# Altium integrated library TI_Logic_Gate.IntLib: 2017 symbols (part 33 of 56)
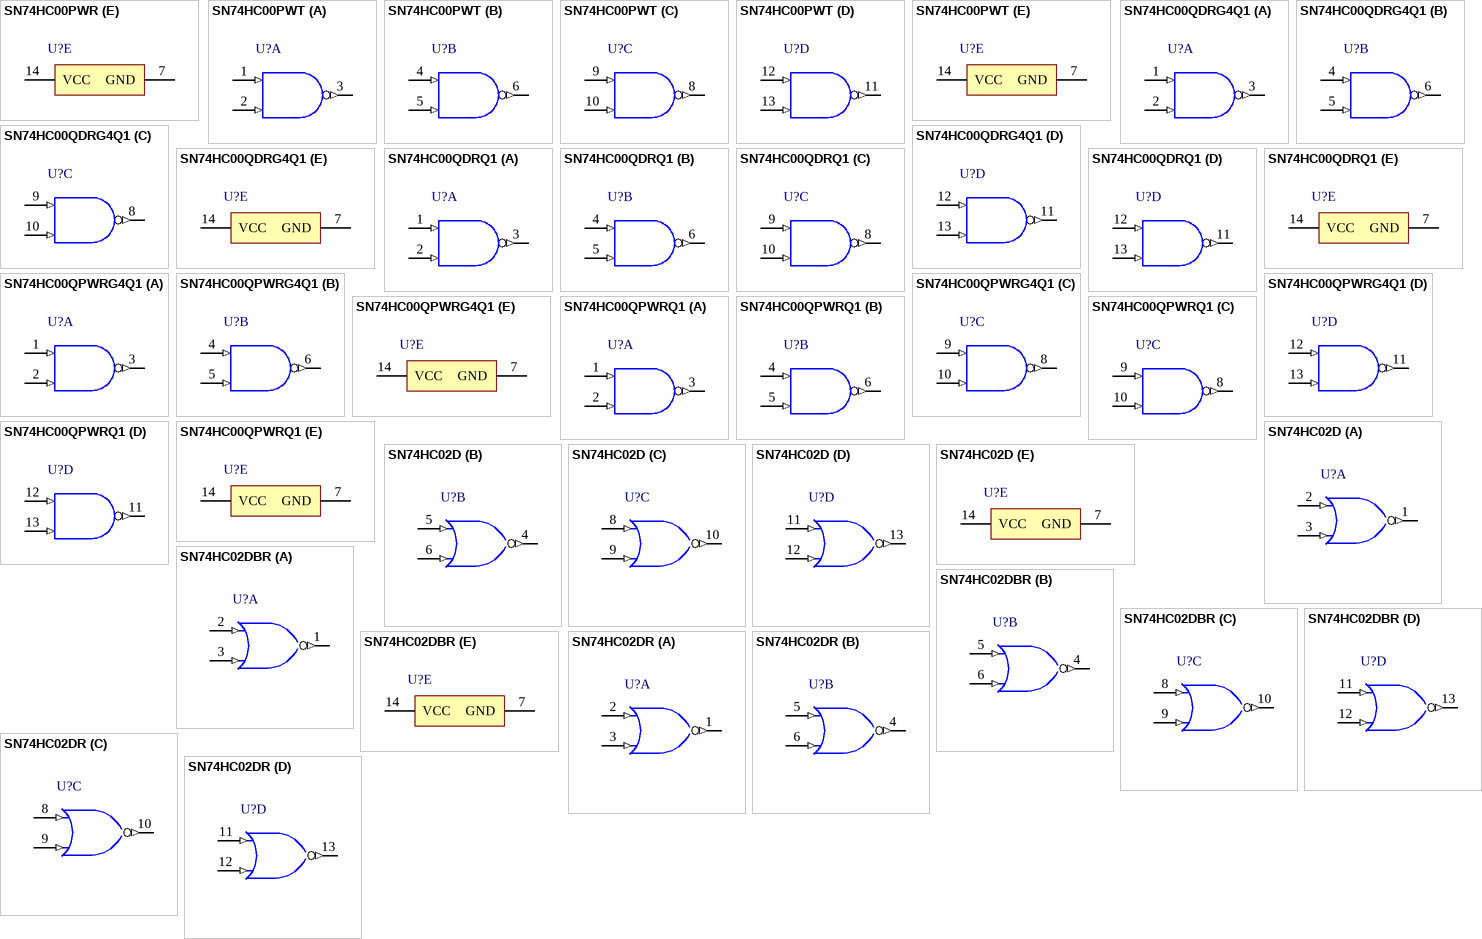
[diagram p257: symbols SN74HC00PWR to SN74HC02DR]

## SN74HC02D
designator U?
Quadruple 2-Input Positive-NOR Gates, D0014A, TUBE; Generic Part Number: SN74HC02; Manufacturer: Texas Instruments; PartNumber: SN74HC02D; VCC(Min)(V): 2; VCC(Max)(V): 6; Output Type: CMOS; Bits(#): 4; Rating: Catalog; tpd @ Nom Voltage(Max)(ns): 23; ICC @ Nom Voltage(Max)(mA): 0.02; F @ Nom Voltage(Max)(Mhz): 70; Voltage(Nom)(V): 5; Output Drive (IOL/IOH)(Max)(mA): 4/-4; DatasheetVersion: SCLS076E; PackageReference: D0014A; Input Type: CMOS; Operating Temperature Range(C): -40 to 85; Code_JEDEC: MS-012; ComponentLink1Description: Manufacturer URL; ComponentLink1URL: http://www.ti.com/; ComponentLink2Description: Datasheet; ComponentLink2URL: http://www.ti.com/lit/ds/symlink/sn74hc02.pdf; ComponentLink3Description: Package Specification; ComponentLink3URL: http://www.ti.com/lit/ml/mpds177g/mpds177g.pdf
footprint D0014A_N (SOIC, 14-Leads, Body 8.75x4mm, Pitch 1.27mm, IPC Medium Density)
footprint D0014A_M (SOIC, 14-Leads, Body 8.75x4mm, Pitch 1.27mm, IPC Low Density)
footprint D0014A_L (SOIC, 14-Leads, Body 8.75x4mm, Pitch 1.27mm, IPC High Density)
part A pins: 1 1Y (out) "1Y output", 2 1A (in) "1A input", 3 1B (in) "1B input"
part B pins: 4 2Y (out) "2Y output", 5 2A (in) "2A input", 6 2B (in) "2B input"
part C pins: 8 3A (in) "3A input", 9 3B (in) "3B input", 10 3Y (out) "3Y output"
part D pins: 11 4A (in) "4A input", 12 4B (in) "4B input", 13 4Y (out) "4Y output"
part E pins: 7 GND (power), 14 VCC (power)

## SN74HC02DBR
designator U?
Quadruple 2-Input Positive-NOR Gates, DB0014A, LARGE T&R; Generic Part Number: SN74HC02; Manufacturer: Texas Instruments; PartNumber: SN74HC02DBR; VCC(Min)(V): 2; VCC(Max)(V): 6; Output Type: CMOS; Bits(#): 4; Rating: Catalog; tpd @ Nom Voltage(Max)(ns): 23; ICC @ Nom Voltage(Max)(mA): 0.02; F @ Nom Voltage(Max)(Mhz): 70; Voltage(Nom)(V): 5; Output Drive (IOL/IOH)(Max)(mA): 4/-4; DatasheetVersion: SCLS076E; PackageReference: DB0014A; Input Type: CMOS; Operating Temperature Range(C): -40 to 85; Code_JEDEC: MO-150; ComponentLink1Description: Manufacturer URL; ComponentLink1URL: http://www.ti.com/; ComponentLink2Description: Datasheet; ComponentLink2URL: http://www.ti.com/lit/ds/symlink/sn74hc02.pdf; ComponentLink3Description: Package Specification; ComponentLink3URL: http://www.ti.com/lit/ml/msso002e/msso002e.pdf
footprint DB0014A_N (SOP, 14-Leads, Body 5.6x6.5mm, Pitch 0.65mm, IPC Medium Density)
footprint DB0014A_M (SOP, 14-Leads, Body 5.6x6.5mm, Pitch 0.65mm, IPC Low Density)
footprint DB0014A_L (SOP, 14-Leads, Body 5.6x6.5mm, Pitch 0.65mm, IPC High Density)
part A pins: 1 1Y (out) "1Y output", 2 1A (in) "1A input", 3 1B (in) "1B input"
part B pins: 4 2Y (out) "2Y output", 5 2A (in) "2A input", 6 2B (in) "2B input"
part C pins: 8 3A (in) "3A input", 9 3B (in) "3B input", 10 3Y (out) "3Y output"
part D pins: 11 4A (in) "4A input", 12 4B (in) "4B input", 13 4Y (out) "4Y output"
part E pins: 7 GND (power), 14 VCC (power)

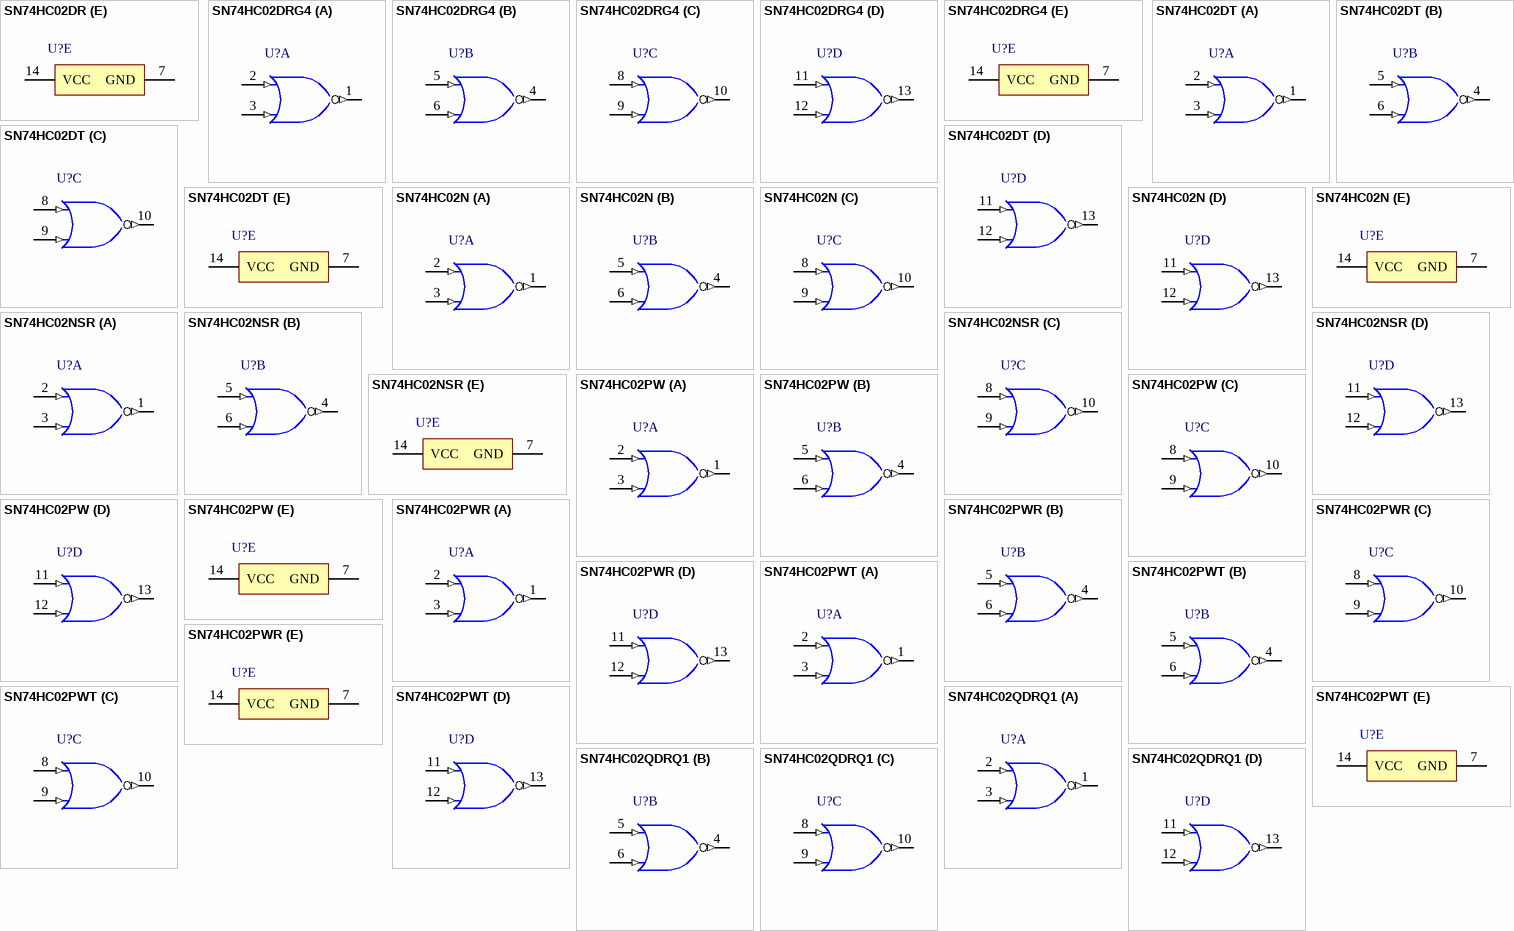
[diagram p130: symbols SN74HC02DR to SN74HC02QDRQ1]

## SN74HC02DR
designator U?
Quadruple 2-Input Positive-NOR Gates, D0014A, LARGE T&R; Generic Part Number: SN74HC02; Manufacturer: Texas Instruments; PartNumber: SN74HC02DR; VCC(Min)(V): 2; VCC(Max)(V): 6; Output Type: CMOS; Bits(#): 4; Rating: Catalog; tpd @ Nom Voltage(Max)(ns): 23; ICC @ Nom Voltage(Max)(mA): 0.02; F @ Nom Voltage(Max)(Mhz): 70; Voltage(Nom)(V): 5; Output Drive (IOL/IOH)(Max)(mA): 4/-4; DatasheetVersion: SCLS076E; PackageReference: D0014A; Input Type: CMOS; Operating Temperature Range(C): -40 to 85; Code_JEDEC: MS-012; ComponentLink1Description: Manufacturer URL; ComponentLink1URL: http://www.ti.com/; ComponentLink2Description: Datasheet; ComponentLink2URL: http://www.ti.com/lit/ds/symlink/sn74hc02.pdf; ComponentLink3Description: Package Specification; ComponentLink3URL: http://www.ti.com/lit/ml/mpds177g/mpds177g.pdf
footprint D0014A_N (SOIC, 14-Leads, Body 8.75x4mm, Pitch 1.27mm, IPC Medium Density)
footprint D0014A_M (SOIC, 14-Leads, Body 8.75x4mm, Pitch 1.27mm, IPC Low Density)
footprint D0014A_L (SOIC, 14-Leads, Body 8.75x4mm, Pitch 1.27mm, IPC High Density)
part A pins: 1 1Y (out) "1Y output", 2 1A (in) "1A input", 3 1B (in) "1B input"
part B pins: 4 2Y (out) "2Y output", 5 2A (in) "2A input", 6 2B (in) "2B input"
part C pins: 8 3A (in) "3A input", 9 3B (in) "3B input", 10 3Y (out) "3Y output"
part D pins: 11 4A (in) "4A input", 12 4B (in) "4B input", 13 4Y (out) "4Y output"
part E pins: 7 GND (power), 14 VCC (power)

## SN74HC02DRG4
designator U?
Quadruple 2-Input Positive-NOR Gates, D0014A, LARGE T&R; Generic Part Number: SN74HC02; Manufacturer: Texas Instruments; PartNumber: SN74HC02DRG4; VCC(Min)(V): 2; VCC(Max)(V): 6; Output Type: CMOS; Bits(#): 4; Rating: Catalog; tpd @ Nom Voltage(Max)(ns): 23; ICC @ Nom Voltage(Max)(mA): 0.02; F @ Nom Voltage(Max)(Mhz): 70; Voltage(Nom)(V): 5; Output Drive (IOL/IOH)(Max)(mA): 4/-4; DatasheetVersion: SCLS076E; PackageReference: D0014A; Input Type: CMOS; Operating Temperature Range(C): -40 to 85; Code_JEDEC: MS-012; ComponentLink1Description: Manufacturer URL; ComponentLink1URL: http://www.ti.com/; ComponentLink2Description: Datasheet; ComponentLink2URL: http://www.ti.com/lit/ds/symlink/sn74hc02.pdf; ComponentLink3Description: Package Specification; ComponentLink3URL: http://www.ti.com/lit/ml/mpds177g/mpds177g.pdf
footprint D0014A_N (SOIC, 14-Leads, Body 8.75x4mm, Pitch 1.27mm, IPC Medium Density)
footprint D0014A_M (SOIC, 14-Leads, Body 8.75x4mm, Pitch 1.27mm, IPC Low Density)
footprint D0014A_L (SOIC, 14-Leads, Body 8.75x4mm, Pitch 1.27mm, IPC High Density)
part A pins: 1 1Y (out) "1Y output", 2 1A (in) "1A input", 3 1B (in) "1B input"
part B pins: 4 2Y (out) "2Y output", 5 2A (in) "2A input", 6 2B (in) "2B input"
part C pins: 8 3A (in) "3A input", 9 3B (in) "3B input", 10 3Y (out) "3Y output"
part D pins: 11 4A (in) "4A input", 12 4B (in) "4B input", 13 4Y (out) "4Y output"
part E pins: 7 GND (power), 14 VCC (power)

## SN74HC02DT
designator U?
Quadruple 2-Input Positive-NOR Gates, D0014A, SMALL T&R; Generic Part Number: SN74HC02; Manufacturer: Texas Instruments; PartNumber: SN74HC02DT; VCC(Min)(V): 2; VCC(Max)(V): 6; Output Type: CMOS; Bits(#): 4; Rating: Catalog; tpd @ Nom Voltage(Max)(ns): 23; ICC @ Nom Voltage(Max)(mA): 0.02; F @ Nom Voltage(Max)(Mhz): 70; Voltage(Nom)(V): 5; Output Drive (IOL/IOH)(Max)(mA): 4/-4; DatasheetVersion: SCLS076E; PackageReference: D0014A; Input Type: CMOS; Operating Temperature Range(C): -40 to 85; Code_JEDEC: MS-012; ComponentLink1Description: Manufacturer URL; ComponentLink1URL: http://www.ti.com/; ComponentLink2Description: Datasheet; ComponentLink2URL: http://www.ti.com/lit/ds/symlink/sn74hc02.pdf; ComponentLink3Description: Package Specification; ComponentLink3URL: http://www.ti.com/lit/ml/mpds177g/mpds177g.pdf
footprint D0014A_N (SOIC, 14-Leads, Body 8.75x4mm, Pitch 1.27mm, IPC Medium Density)
footprint D0014A_M (SOIC, 14-Leads, Body 8.75x4mm, Pitch 1.27mm, IPC Low Density)
footprint D0014A_L (SOIC, 14-Leads, Body 8.75x4mm, Pitch 1.27mm, IPC High Density)
part A pins: 1 1Y (out) "1Y output", 2 1A (in) "1A input", 3 1B (in) "1B input"
part B pins: 4 2Y (out) "2Y output", 5 2A (in) "2A input", 6 2B (in) "2B input"
part C pins: 8 3A (in) "3A input", 9 3B (in) "3B input", 10 3Y (out) "3Y output"
part D pins: 11 4A (in) "4A input", 12 4B (in) "4B input", 13 4Y (out) "4Y output"
part E pins: 7 GND (power), 14 VCC (power)

## SN74HC02N
designator U?
Quadruple 2-Input Positive-NOR Gates, N0014A, TUBE; Generic Part Number: SN74HC02; Manufacturer: Texas Instruments; PartNumber: SN74HC02N; VCC(Min)(V): 2; VCC(Max)(V): 6; Output Type: CMOS; Bits(#): 4; Rating: Catalog; tpd @ Nom Voltage(Max)(ns): 23; ICC @ Nom Voltage(Max)(mA): 0.02; F @ Nom Voltage(Max)(Mhz): 70; Voltage(Nom)(V): 5; Output Drive (IOL/IOH)(Max)(mA): 4/-4; DatasheetVersion: SCLS076E; PackageReference: N0014A; Input Type: CMOS; Operating Temperature Range(C): -40 to 85; Code_JEDEC: MS-001; ComponentLink1Description: Manufacturer URL; ComponentLink1URL: http://www.ti.com/; ComponentLink2Description: Datasheet; ComponentLink2URL: http://www.ti.com/lit/ds/symlink/sn74hc02.pdf; ComponentLink3Description: Package Specification; ComponentLink3URL: http://www.ti.com/lit/ml/mpdi002c/mpdi002c.pdf
footprint N0014A (DIP, 14-Leads, Body 19.7x6.6mm, Pitch 2.54mm)
part A pins: 1 1Y (out) "1Y output", 2 1A (in) "1A input", 3 1B (in) "1B input"
part B pins: 4 2Y (out) "2Y output", 5 2A (in) "2A input", 6 2B (in) "2B input"
part C pins: 8 3A (in) "3A input", 9 3B (in) "3B input", 10 3Y (out) "3Y output"
part D pins: 11 4A (in) "4A input", 12 4B (in) "4B input", 13 4Y (out) "4Y output"
part E pins: 7 GND (power), 14 VCC (power)

## SN74HC02NSR
designator U?
Quadruple 2-Input Positive-NOR Gates, NS0014A, LARGE T&R; Generic Part Number: SN74HC02; Manufacturer: Texas Instruments; PartNumber: SN74HC02NSR; VCC(Min)(V): 2; VCC(Max)(V): 6; Output Type: CMOS; Bits(#): 4; Rating: Catalog; tpd @ Nom Voltage(Max)(ns): 23; ICC @ Nom Voltage(Max)(mA): 0.02; F @ Nom Voltage(Max)(Mhz): 70; Voltage(Nom)(V): 5; Output Drive (IOL/IOH)(Max)(mA): 4/-4; DatasheetVersion: SCLS076E; PackageReference: NS0014A; Input Type: CMOS; Operating Temperature Range(C): -40 to 85; ComponentLink1Description: Manufacturer URL; ComponentLink1URL: http://www.ti.com/; ComponentLink2Description: Datasheet; ComponentLink2URL: http://www.ti.com/lit/ds/symlink/sn74hc02.pdf; ComponentLink3Description: Package Specification; ComponentLink3URL: http://www.ti.com/lit/ml/msop002a/msop002a.pdf
footprint NS0014A_N (SOIC,14-Leads,Body 10.5x5.6mm,Pitch 1.27mm,IPC Medium Density)
footprint NS0014A_M (SOIC,14-Leads,Body 10.5x5.6mm,Pitch 1.27mm,IPC Low Density)
footprint NS0014A_L (SOIC,14-Leads,Body 10.5x5.6mm,Pitch 0.4mm,IPC High Density)
part A pins: 1 1Y (out) "1Y output", 2 1A (in) "1A input", 3 1B (in) "1B input"
part B pins: 4 2Y (out) "2Y output", 5 2A (in) "2A input", 6 2B (in) "2B input"
part C pins: 8 3A (in) "3A input", 9 3B (in) "3B input", 10 3Y (out) "3Y output"
part D pins: 11 4A (in) "4A input", 12 4B (in) "4B input", 13 4Y (out) "4Y output"
part E pins: 7 GND (power), 14 VCC (power)

## SN74HC02PW
designator U?
Quadruple 2-Input Positive-NOR Gates, PW0014A, TUBE; Generic Part Number: SN74HC02; Manufacturer: Texas Instruments; PartNumber: SN74HC02PW; VCC(Min)(V): 2; VCC(Max)(V): 6; Output Type: CMOS; Bits(#): 4; Rating: Catalog; tpd @ Nom Voltage(Max)(ns): 23; ICC @ Nom Voltage(Max)(mA): 0.02; F @ Nom Voltage(Max)(Mhz): 70; Voltage(Nom)(V): 5; Output Drive (IOL/IOH)(Max)(mA): 4/-4; DatasheetVersion: SCLS076E; PackageReference: PW0014A; Input Type: CMOS; Operating Temperature Range(C): -40 to 85; Code_JEDEC: MO-153; ComponentLink1Description: Manufacturer URL; ComponentLink1URL: http://www.ti.com/; ComponentLink2Description: Datasheet; ComponentLink2URL: http://www.ti.com/lit/ds/symlink/sn74hc02.pdf; ComponentLink3Description: Package Specification; ComponentLink3URL: http://www.ti.com/lit/ml/mpds360/mpds360.pdf
footprint PW0014A_N (SOP, 14-Leads, Body 5.1x4.5mm, Pitch 0.65mm, IPC Medium Density)
footprint PW0014A_M (SOP, 14-Leads, Body 5.1x4.5mm, Pitch 0.65mm, IPC Low Density)
footprint PW0014A_L (SOP, 14-Leads, Body 5.1x4.5mm, Pitch 0.65mm, IPC High Density)
part A pins: 1 1Y (out) "1Y output", 2 1A (in) "1A input", 3 1B (in) "1B input"
part B pins: 4 2Y (out) "2Y output", 5 2A (in) "2A input", 6 2B (in) "2B input"
part C pins: 8 3A (in) "3A input", 9 3B (in) "3B input", 10 3Y (out) "3Y output"
part D pins: 11 4A (in) "4A input", 12 4B (in) "4B input", 13 4Y (out) "4Y output"
part E pins: 7 GND (power), 14 VCC (power)

## SN74HC02PWR
designator U?
Quadruple 2-Input Positive-NOR Gates, PW0014A, LARGE T&R; Generic Part Number: SN74HC02; Manufacturer: Texas Instruments; PartNumber: SN74HC02PWR; VCC(Min)(V): 2; VCC(Max)(V): 6; Output Type: CMOS; Bits(#): 4; Rating: Catalog; tpd @ Nom Voltage(Max)(ns): 23; ICC @ Nom Voltage(Max)(mA): 0.02; F @ Nom Voltage(Max)(Mhz): 70; Voltage(Nom)(V): 5; Output Drive (IOL/IOH)(Max)(mA): 4/-4; DatasheetVersion: SCLS076E; PackageReference: PW0014A; Input Type: CMOS; Operating Temperature Range(C): -40 to 85; Code_JEDEC: MO-153; ComponentLink1Description: Manufacturer URL; ComponentLink1URL: http://www.ti.com/; ComponentLink2Description: Datasheet; ComponentLink2URL: http://www.ti.com/lit/ds/symlink/sn74hc02.pdf; ComponentLink3Description: Package Specification; ComponentLink3URL: http://www.ti.com/lit/ml/mpds360/mpds360.pdf
footprint PW0014A_N (SOP, 14-Leads, Body 5.1x4.5mm, Pitch 0.65mm, IPC Medium Density)
footprint PW0014A_M (SOP, 14-Leads, Body 5.1x4.5mm, Pitch 0.65mm, IPC Low Density)
footprint PW0014A_L (SOP, 14-Leads, Body 5.1x4.5mm, Pitch 0.65mm, IPC High Density)
part A pins: 1 1Y (out) "1Y output", 2 1A (in) "1A input", 3 1B (in) "1B input"
part B pins: 4 2Y (out) "2Y output", 5 2A (in) "2A input", 6 2B (in) "2B input"
part C pins: 8 3A (in) "3A input", 9 3B (in) "3B input", 10 3Y (out) "3Y output"
part D pins: 11 4A (in) "4A input", 12 4B (in) "4B input", 13 4Y (out) "4Y output"
part E pins: 7 GND (power), 14 VCC (power)

## SN74HC02PWT
designator U?
Quadruple 2-Input Positive-NOR Gates, PW0014A, SMALL T&R; Generic Part Number: SN74HC02; Manufacturer: Texas Instruments; PartNumber: SN74HC02PWT; VCC(Min)(V): 2; VCC(Max)(V): 6; Output Type: CMOS; Bits(#): 4; Rating: Catalog; tpd @ Nom Voltage(Max)(ns): 23; ICC @ Nom Voltage(Max)(mA): 0.02; F @ Nom Voltage(Max)(Mhz): 70; Voltage(Nom)(V): 5; Output Drive (IOL/IOH)(Max)(mA): 4/-4; DatasheetVersion: SCLS076E; PackageReference: PW0014A; Input Type: CMOS; Operating Temperature Range(C): -40 to 85; Code_JEDEC: MO-153; ComponentLink1Description: Manufacturer URL; ComponentLink1URL: http://www.ti.com/; ComponentLink2Description: Datasheet; ComponentLink2URL: http://www.ti.com/lit/ds/symlink/sn74hc02.pdf; ComponentLink3Description: Package Specification; ComponentLink3URL: http://www.ti.com/lit/ml/mpds360/mpds360.pdf
footprint PW0014A_N (SOP, 14-Leads, Body 5.1x4.5mm, Pitch 0.65mm, IPC Medium Density)
footprint PW0014A_M (SOP, 14-Leads, Body 5.1x4.5mm, Pitch 0.65mm, IPC Low Density)
footprint PW0014A_L (SOP, 14-Leads, Body 5.1x4.5mm, Pitch 0.65mm, IPC High Density)
part A pins: 1 1Y (out) "1Y output", 2 1A (in) "1A input", 3 1B (in) "1B input"
part B pins: 4 2Y (out) "2Y output", 5 2A (in) "2A input", 6 2B (in) "2B input"
part C pins: 8 3A (in) "3A input", 9 3B (in) "3B input", 10 3Y (out) "3Y output"
part D pins: 11 4A (in) "4A input", 12 4B (in) "4B input", 13 4Y (out) "4Y output"
part E pins: 7 GND (power), 14 VCC (power)

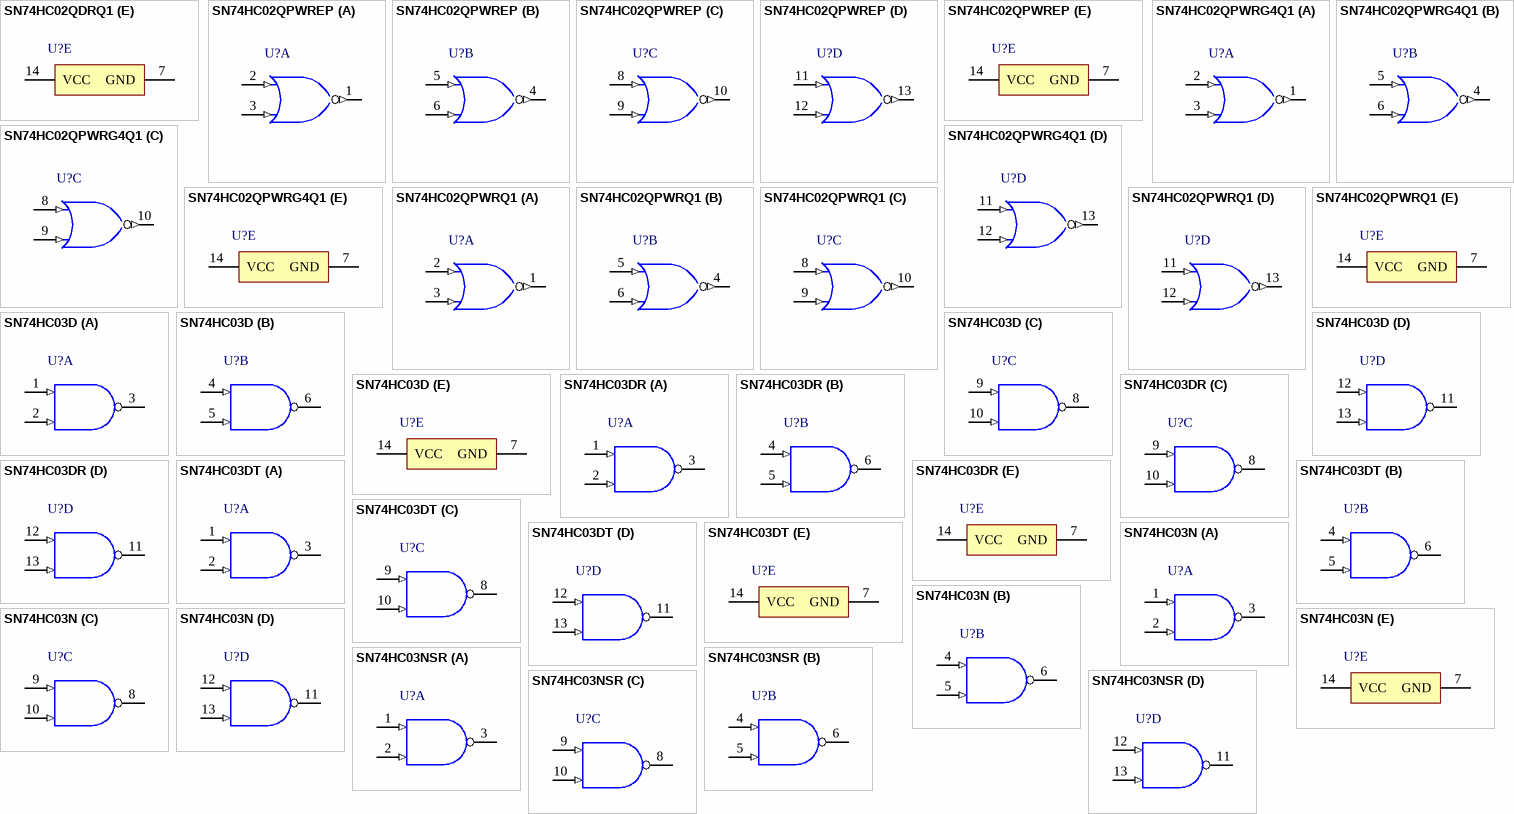
[diagram p131: symbols SN74HC02QDRQ1 to SN74HC03NSR]

## SN74HC02QDRQ1
designator U?
Automotive Catalog Quadruple 2-Input Positive-NOR Gates, D0014A, LARGE T&R; Generic Part Number: SN74HC02-Q1; Manufacturer: Texas Instruments; PartNumber: SN74HC02QDRQ1; VCC(Min)(V): 2; VCC(Max)(V): 6; Output Type: CMOS; Bits(#): 4; tpd @ Nom Voltage(Max)(ns): 18; ICC @ Nom Voltage(Max)(mA): 0.02; F @ Nom Voltage(Max)(Mhz): 70; Voltage(Nom)(V): 5; Output Drive (IOL/IOH)(Max)(mA): 4/-4; DatasheetVersion: SCLS530A; PackageReference: D0014A; Input Type: CMOS; Operating Temperature Range(C): -40 to 125; Rating: Automotive; Code_JEDEC: MS-012; ComponentLink1Description: Manufacturer URL; ComponentLink1URL: http://www.ti.com/; ComponentLink2Description: Datasheet; ComponentLink2URL: http://www.ti.com/lit/ds/symlink/sn74hc02-q1.pdf; ComponentLink3Description: Package Specification; ComponentLink3URL: http://www.ti.com/lit/ml/mpds177g/mpds177g.pdf
footprint D0014A_N (SOIC, 14-Leads, Body 8.75x4mm, Pitch 1.27mm, IPC Medium Density)
footprint D0014A_M (SOIC, 14-Leads, Body 8.75x4mm, Pitch 1.27mm, IPC Low Density)
footprint D0014A_L (SOIC, 14-Leads, Body 8.75x4mm, Pitch 1.27mm, IPC High Density)
part A pins: 1 1Y (out) "1Y output", 2 1A (in) "1A input", 3 1B (in) "1B input"
part B pins: 4 2Y (out) "2Y output", 5 2A (in) "2A input", 6 2B (in) "2B input"
part C pins: 8 3A (in) "3A input", 9 3B (in) "3B input", 10 3Y (out) "3Y output"
part D pins: 11 4A (in) "4A input", 12 4B (in) "4B input", 13 4Y (out) "4Y output"
part E pins: 7 GND (power), 14 VCC (power)

## SN74HC02QPWREP
designator U?
Enhanced Product Quadruple 2-Input Positive-Nor Gates, PW0014A, LARGE T&R; Generic Part Number: SN74HC02-EP; Manufacturer: Texas Instruments; PartNumber: SN74HC02QPWREP; VCC(Min)(V): 2; VCC(Max)(V): 6; Output Type: CMOS; Bits(#): 4; Rating: HiRel Enhanced Product; tpd @ Nom Voltage(Max)(ns): 18; ICC @ Nom Voltage(Max)(mA): 0.02; F @ Nom Voltage(Max)(Mhz): 70; Voltage(Nom)(V): 5; Output Drive (IOL/IOH)(Max)(mA): 4/-4; DatasheetVersion: SCLS478A; PackageReference: PW0014A; Input Type: CMOS; Operating Temperature Range(C): -40 to 125; Code_JEDEC: MO-153; ComponentLink1Description: Manufacturer URL; ComponentLink1URL: http://www.ti.com/; ComponentLink2Description: Datasheet; ComponentLink2URL: http://www.ti.com/lit/ds/symlink/sn74hc02-ep.pdf; ComponentLink3Description: Package Specification; ComponentLink3URL: http://www.ti.com/lit/ml/mpds360/mpds360.pdf
footprint PW0014A_N (SOP, 14-Leads, Body 5.1x4.5mm, Pitch 0.65mm, IPC Medium Density)
footprint PW0014A_M (SOP, 14-Leads, Body 5.1x4.5mm, Pitch 0.65mm, IPC Low Density)
footprint PW0014A_L (SOP, 14-Leads, Body 5.1x4.5mm, Pitch 0.65mm, IPC High Density)
part A pins: 1 1Y (out) "1Y output", 2 1A (in) "1A input", 3 1B (in) "1B input"
part B pins: 4 2Y (out) "2Y output", 5 2A (in) "2A input", 6 2B (in) "2B input"
part C pins: 8 3A (in) "3A input", 9 3B (in) "3B input", 10 3Y (out) "3Y output"
part D pins: 11 4A (in) "4A input", 12 4B (in) "4B input", 13 4Y (out) "4Y output"
part E pins: 7 GND (power), 14 VCC (power)

## SN74HC02QPWRG4Q1
designator U?
Automotive Catalog Quadruple 2-Input Positive-NOR Gates, PW0014A, LARGE T&R; Generic Part Number: SN74HC02-Q1; Manufacturer: Texas Instruments; PartNumber: SN74HC02QPWRG4Q1; VCC(Min)(V): 2; VCC(Max)(V): 6; Output Type: CMOS; Bits(#): 4; tpd @ Nom Voltage(Max)(ns): 18; ICC @ Nom Voltage(Max)(mA): 0.02; F @ Nom Voltage(Max)(Mhz): 70; Voltage(Nom)(V): 5; Output Drive (IOL/IOH)(Max)(mA): 4/-4; DatasheetVersion: SCLS530A; PackageReference: PW0014A; Input Type: CMOS; Operating Temperature Range(C): -40 to 125; Rating: Automotive; Code_JEDEC: MO-153; ComponentLink1Description: Manufacturer URL; ComponentLink1URL: http://www.ti.com/; ComponentLink2Description: Datasheet; ComponentLink2URL: http://www.ti.com/lit/ds/symlink/sn74hc02-q1.pdf; ComponentLink3Description: Package Specification; ComponentLink3URL: http://www.ti.com/lit/ml/mpds360/mpds360.pdf
footprint PW0014A_N (SOP, 14-Leads, Body 5.1x4.5mm, Pitch 0.65mm, IPC Medium Density)
footprint PW0014A_M (SOP, 14-Leads, Body 5.1x4.5mm, Pitch 0.65mm, IPC Low Density)
footprint PW0014A_L (SOP, 14-Leads, Body 5.1x4.5mm, Pitch 0.65mm, IPC High Density)
part A pins: 1 1Y (out) "1Y output", 2 1A (in) "1A input", 3 1B (in) "1B input"
part B pins: 4 2Y (out) "2Y output", 5 2A (in) "2A input", 6 2B (in) "2B input"
part C pins: 8 3A (in) "3A input", 9 3B (in) "3B input", 10 3Y (out) "3Y output"
part D pins: 11 4A (in) "4A input", 12 4B (in) "4B input", 13 4Y (out) "4Y output"
part E pins: 7 GND (power), 14 VCC (power)

## SN74HC02QPWRQ1
designator U?
Automotive Catalog Quadruple 2-Input Positive-NOR Gates, PW0014A, LARGE T&R; Generic Part Number: SN74HC02-Q1; Manufacturer: Texas Instruments; PartNumber: SN74HC02QPWRQ1; VCC(Min)(V): 2; VCC(Max)(V): 6; Output Type: CMOS; Bits(#): 4; tpd @ Nom Voltage(Max)(ns): 18; ICC @ Nom Voltage(Max)(mA): 0.02; F @ Nom Voltage(Max)(Mhz): 70; Voltage(Nom)(V): 5; Output Drive (IOL/IOH)(Max)(mA): 4/-4; DatasheetVersion: SCLS530A; PackageReference: PW0014A; Input Type: CMOS; Operating Temperature Range(C): -40 to 125; Rating: Automotive; Code_JEDEC: MO-153; ComponentLink1Description: Manufacturer URL; ComponentLink1URL: http://www.ti.com/; ComponentLink2Description: Datasheet; ComponentLink2URL: http://www.ti.com/lit/ds/symlink/sn74hc02-q1.pdf; ComponentLink3Description: Package Specification; ComponentLink3URL: http://www.ti.com/lit/ml/mpds360/mpds360.pdf
footprint PW0014A_N (SOP, 14-Leads, Body 5.1x4.5mm, Pitch 0.65mm, IPC Medium Density)
footprint PW0014A_M (SOP, 14-Leads, Body 5.1x4.5mm, Pitch 0.65mm, IPC Low Density)
footprint PW0014A_L (SOP, 14-Leads, Body 5.1x4.5mm, Pitch 0.65mm, IPC High Density)
part A pins: 1 1Y (out) "1Y output", 2 1A (in) "1A input", 3 1B (in) "1B input"
part B pins: 4 2Y (out) "2Y output", 5 2A (in) "2A input", 6 2B (in) "2B input"
part C pins: 8 3A (in) "3A input", 9 3B (in) "3B input", 10 3Y (out) "3Y output"
part D pins: 11 4A (in) "4A input", 12 4B (in) "4B input", 13 4Y (out) "4Y output"
part E pins: 7 GND (power), 14 VCC (power)

## SN74HC03D
designator U?
Quadruple 2-Input Positive-NAND Gates With Open-Drain Outputs, D0014A, TUBE; Generic Part Number: SN74HC03; Manufacturer: Texas Instruments; PartNumber: SN74HC03D; VCC(Min)(V): 2; VCC(Max)(V): 6; Output Type: CMOS; ICC @ Nom Voltage(Max)(mA): 0.02; Bits(#): 4; F @ Nom Voltage(Max)(Mhz): 70; Rating: Catalog; Technology Family: HC; Voltage(Nom)(V): 5; Schmitt Trigger: No; Output Drive (IOL/IOH)(Max)(mA): 5.2/-5.2; tpd @ Nom Voltage(Max)(ns): 31; DatasheetVersion: SCLS077E; PackageReference: D0014A; Supplier 1: Mouser; Supplier Part Number 1: 595-SN74HC03D; Supplier 2: Digi-Key; Supplier Part Number 2: 296-9817-5-ND; Input Type: CMOS; Operating Temperature Range(C): -40 to 85; Code_JEDEC: MS-012; ComponentLink1Description: Manufacturer URL; ComponentLink1URL: http://www.ti.com/; ComponentLink2Description: Datasheet; ComponentLink2URL: http://www.ti.com/lit/ds/symlink/sn74hc03.pdf; ComponentLink3Description: Package Specification; ComponentLink3URL: http://www.ti.com/lit/ml/mpds177g/mpds177g.pdf
footprint D0014A_N (SOIC, 14-Leads, Body 8.75x4mm, Pitch 1.27mm, IPC Medium Density)
footprint D0014A_M (SOIC, 14-Leads, Body 8.75x4mm, Pitch 1.27mm, IPC Low Density)
footprint D0014A_L (SOIC, 14-Leads, Body 8.75x4mm, Pitch 1.27mm, IPC High Density)
part A pins: 1 1A (in), 2 1B (in), 3 1Y (oc)
part B pins: 4 2A (in), 5 2B (in), 6 2Y (oc)
part C pins: 8 3Y (oc), 9 3A (in), 10 3B (in)
part D pins: 11 4Y (oc), 12 4A (in), 13 4B (in)
part E pins: 7 GND (power), 14 VCC (power)

## SN74HC03DR
designator U?
Quadruple 2-Input Positive-NAND Gates With Open-Drain Outputs, D0014A, LARGE T&R; Generic Part Number: SN74HC03; Manufacturer: Texas Instruments; PartNumber: SN74HC03DR; VCC(Min)(V): 2; VCC(Max)(V): 6; Output Type: CMOS; ICC @ Nom Voltage(Max)(mA): 0.02; Bits(#): 4; F @ Nom Voltage(Max)(Mhz): 70; Rating: Catalog; Technology Family: HC; Voltage(Nom)(V): 5; Schmitt Trigger: No; Output Drive (IOL/IOH)(Max)(mA): 5.2/-5.2; tpd @ Nom Voltage(Max)(ns): 31; DatasheetVersion: SCLS077E; PackageReference: D0014A; Supplier 1: Mouser; Supplier Part Number 1: 595-SN74HC03DR; Supplier 2: Digi-Key; Supplier Part Number 2: 296-14826-2-ND; Supplier 3: Digi-Key; Supplier Part Number 3: 296-14826-1-ND; Supplier 4: Digi-Key; Supplier Part Number 4: 296-14826-6-ND; Input Type: CMOS; Operating Temperature Range(C): -40 to 85; Code_JEDEC: MS-012; ComponentLink1Description: Manufacturer URL; ComponentLink1URL: http://www.ti.com/; ComponentLink2Description: Datasheet; ComponentLink2URL: http://www.ti.com/lit/ds/symlink/sn74hc03.pdf; ComponentLink3Description: Package Specification; ComponentLink3URL: http://www.ti.com/lit/ml/mpds177g/mpds177g.pdf
footprint D0014A_N (SOIC, 14-Leads, Body 8.75x4mm, Pitch 1.27mm, IPC Medium Density)
footprint D0014A_M (SOIC, 14-Leads, Body 8.75x4mm, Pitch 1.27mm, IPC Low Density)
footprint D0014A_L (SOIC, 14-Leads, Body 8.75x4mm, Pitch 1.27mm, IPC High Density)
part A pins: 1 1A (in), 2 1B (in), 3 1Y (oc)
part B pins: 4 2A (in), 5 2B (in), 6 2Y (oc)
part C pins: 8 3Y (oc), 9 3A (in), 10 3B (in)
part D pins: 11 4Y (oc), 12 4A (in), 13 4B (in)
part E pins: 7 GND (power), 14 VCC (power)

## SN74HC03DT
designator U?
Quadruple 2-Input Positive-NAND Gates With Open-Drain Outputs, D0014A, SMALL T&R; Generic Part Number: SN74HC03; Manufacturer: Texas Instruments; PartNumber: SN74HC03DT; VCC(Min)(V): 2; VCC(Max)(V): 6; Output Type: CMOS; ICC @ Nom Voltage(Max)(mA): 0.02; Bits(#): 4; F @ Nom Voltage(Max)(Mhz): 70; Rating: Catalog; Technology Family: HC; Voltage(Nom)(V): 5; Schmitt Trigger: No; Output Drive (IOL/IOH)(Max)(mA): 5.2/-5.2; tpd @ Nom Voltage(Max)(ns): 31; DatasheetVersion: SCLS077E; PackageReference: D0014A; Supplier 1: Mouser; Supplier Part Number 1: 595-SN74HC03DT; Supplier 2: Digi-Key; Supplier Part Number 2: 296-31770-2-ND; Supplier 3: Digi-Key; Supplier Part Number 3: 296-31770-1-ND; Supplier 4: Digi-Key; Supplier Part Number 4: 296-31770-6-ND; Input Type: CMOS; Operating Temperature Range(C): -40 to 85; Code_JEDEC: MS-012; ComponentLink1Description: Manufacturer URL; ComponentLink1URL: http://www.ti.com/; ComponentLink2Description: Datasheet; ComponentLink2URL: http://www.ti.com/lit/ds/symlink/sn74hc03.pdf; ComponentLink3Description: Package Specification; ComponentLink3URL: http://www.ti.com/lit/ml/mpds177g/mpds177g.pdf
footprint D0014A_N (SOIC, 14-Leads, Body 8.75x4mm, Pitch 1.27mm, IPC Medium Density)
footprint D0014A_M (SOIC, 14-Leads, Body 8.75x4mm, Pitch 1.27mm, IPC Low Density)
footprint D0014A_L (SOIC, 14-Leads, Body 8.75x4mm, Pitch 1.27mm, IPC High Density)
part A pins: 1 1A (in), 2 1B (in), 3 1Y (oc)
part B pins: 4 2A (in), 5 2B (in), 6 2Y (oc)
part C pins: 8 3Y (oc), 9 3A (in), 10 3B (in)
part D pins: 11 4Y (oc), 12 4A (in), 13 4B (in)
part E pins: 7 GND (power), 14 VCC (power)

## SN74HC03N
designator U?
Quadruple 2-Input Positive-NAND Gates With Open-Drain Outputs, N0014A, TUBE; Generic Part Number: SN74HC03; Manufacturer: Texas Instruments; PartNumber: SN74HC03N; VCC(Min)(V): 2; VCC(Max)(V): 6; Output Type: CMOS; ICC @ Nom Voltage(Max)(mA): 0.02; Bits(#): 4; F @ Nom Voltage(Max)(Mhz): 70; Rating: Catalog; Technology Family: HC; Voltage(Nom)(V): 5; Schmitt Trigger: No; Output Drive (IOL/IOH)(Max)(mA): 5.2/-5.2; tpd @ Nom Voltage(Max)(ns): 31; DatasheetVersion: SCLS077E; PackageReference: N0014A; Supplier 1: Mouser; Supplier Part Number 1: 595-SN74HC03N; Supplier 2: Digi-Key; Supplier Part Number 2: 296-8207-5-ND; Input Type: CMOS; Operating Temperature Range(C): -40 to 85; Code_JEDEC: MS-001; ComponentLink1Description: Manufacturer URL; ComponentLink1URL: http://www.ti.com/; ComponentLink2Description: Datasheet; ComponentLink2URL: http://www.ti.com/lit/ds/symlink/sn74hc03.pdf; ComponentLink3Description: Package Specification; ComponentLink3URL: http://www.ti.com/lit/ml/mpdi002c/mpdi002c.pdf
footprint N0014A (DIP, 14-Leads, Body 19.7x6.6mm, Pitch 2.54mm)
part A pins: 1 1A (in), 2 1B (in), 3 1Y (oc)
part B pins: 4 2A (in), 5 2B (in), 6 2Y (oc)
part C pins: 8 3Y (oc), 9 3A (in), 10 3B (in)
part D pins: 11 4Y (oc), 12 4A (in), 13 4B (in)
part E pins: 7 GND (power), 14 VCC (power)

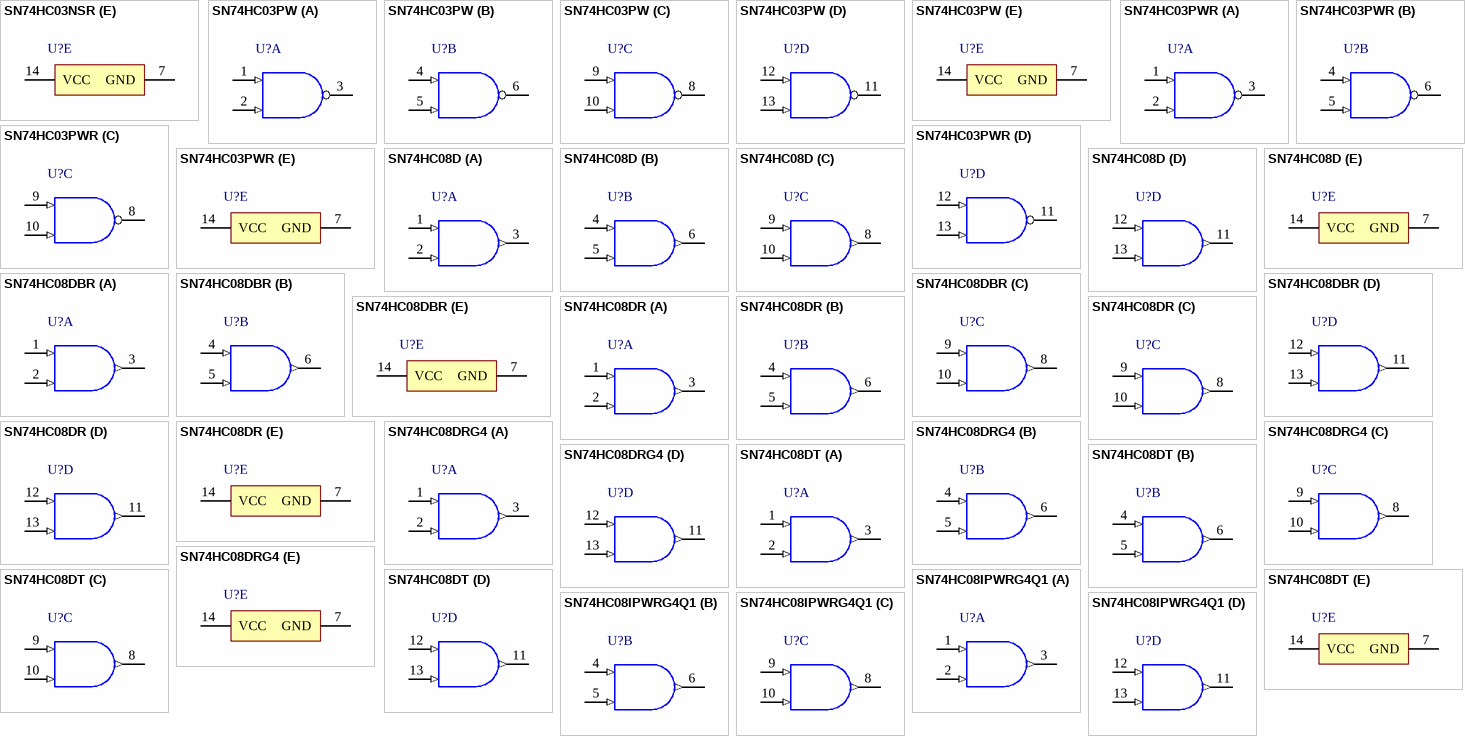
[diagram p132: symbols SN74HC03NSR to SN74HC08IPWRG4Q1]

## SN74HC03NSR
designator U?
Quadruple 2-Input Positive-NAND Gates With Open-Drain Outputs, NS0014A, LARGE T&R; Generic Part Number: SN74HC03; Manufacturer: Texas Instruments; PartNumber: SN74HC03NSR; VCC(Min)(V): 2; VCC(Max)(V): 6; Output Type: CMOS; ICC @ Nom Voltage(Max)(mA): 0.02; Bits(#): 4; F @ Nom Voltage(Max)(Mhz): 70; Rating: Catalog; Technology Family: HC; Voltage(Nom)(V): 5; Schmitt Trigger: No; Output Drive (IOL/IOH)(Max)(mA): 5.2/-5.2; tpd @ Nom Voltage(Max)(ns): 31; DatasheetVersion: SCLS077E; PackageReference: NS0014A; Supplier 1: Mouser; Supplier Part Number 1: 595-SN74HC03NSR; Supplier 2: Digi-Key; Supplier Part Number 2: 296-31771-2-ND; Supplier 3: Digi-Key; Supplier Part Number 3: 296-31771-1-ND; Supplier 4: Digi-Key; Supplier Part Number 4: 296-31771-6-ND; Input Type: CMOS; Operating Temperature Range(C): -40 to 85; ComponentLink1Description: Manufacturer URL; ComponentLink1URL: http://www.ti.com/; ComponentLink2Description: Datasheet; ComponentLink2URL: http://www.ti.com/lit/ds/symlink/sn74hc03.pdf; ComponentLink3Description: Package Specification; ComponentLink3URL: http://www.ti.com/lit/ml/msop002a/msop002a.pdf
footprint NS0014A_N (SOIC,14-Leads,Body 10.5x5.6mm,Pitch 1.27mm,IPC Medium Density)
footprint NS0014A_M (SOIC,14-Leads,Body 10.5x5.6mm,Pitch 1.27mm,IPC Low Density)
footprint NS0014A_L (SOIC,14-Leads,Body 10.5x5.6mm,Pitch 0.4mm,IPC High Density)
part A pins: 1 1A (in), 2 1B (in), 3 1Y (oc)
part B pins: 4 2A (in), 5 2B (in), 6 2Y (oc)
part C pins: 8 3Y (oc), 9 3A (in), 10 3B (in)
part D pins: 11 4Y (oc), 12 4A (in), 13 4B (in)
part E pins: 7 GND (power), 14 VCC (power)

## SN74HC03PW
designator U?
Quadruple 2-Input Positive-NAND Gates With Open-Drain Outputs, PW0014A, TUBE; Generic Part Number: SN74HC03; Manufacturer: Texas Instruments; PartNumber: SN74HC03PW; VCC(Min)(V): 2; VCC(Max)(V): 6; Output Type: CMOS; ICC @ Nom Voltage(Max)(mA): 0.02; Bits(#): 4; F @ Nom Voltage(Max)(Mhz): 70; Rating: Catalog; Technology Family: HC; Voltage(Nom)(V): 5; Schmitt Trigger: No; Output Drive (IOL/IOH)(Max)(mA): 5.2/-5.2; tpd @ Nom Voltage(Max)(ns): 31; DatasheetVersion: SCLS077E; PackageReference: PW0014A; Supplier 1: Mouser; Supplier Part Number 1: 595-SN74HC03PW; Supplier 2: Digi-Key; Supplier Part Number 2: SN74HC03PW-ND; Input Type: CMOS; Operating Temperature Range(C): -40 to 85; Code_JEDEC: MO-153; ComponentLink1Description: Manufacturer URL; ComponentLink1URL: http://www.ti.com/; ComponentLink2Description: Datasheet; ComponentLink2URL: http://www.ti.com/lit/ds/symlink/sn74hc03.pdf; ComponentLink3Description: Package Specification; ComponentLink3URL: http://www.ti.com/lit/ml/mpds360/mpds360.pdf
footprint PW0014A_N (SOP, 14-Leads, Body 5.1x4.5mm, Pitch 0.65mm, IPC Medium Density)
footprint PW0014A_M (SOP, 14-Leads, Body 5.1x4.5mm, Pitch 0.65mm, IPC Low Density)
footprint PW0014A_L (SOP, 14-Leads, Body 5.1x4.5mm, Pitch 0.65mm, IPC High Density)
part A pins: 1 1A (in), 2 1B (in), 3 1Y (oc)
part B pins: 4 2A (in), 5 2B (in), 6 2Y (oc)
part C pins: 8 3Y (oc), 9 3A (in), 10 3B (in)
part D pins: 11 4Y (oc), 12 4A (in), 13 4B (in)
part E pins: 7 GND (power), 14 VCC (power)

## SN74HC03PWR
designator U?
Quadruple 2-Input Positive-NAND Gates With Open-Drain Outputs, PW0014A, LARGE T&R; Generic Part Number: SN74HC03; Manufacturer: Texas Instruments; PartNumber: SN74HC03PWR; VCC(Min)(V): 2; VCC(Max)(V): 6; Output Type: CMOS; ICC @ Nom Voltage(Max)(mA): 0.02; Bits(#): 4; F @ Nom Voltage(Max)(Mhz): 70; Rating: Catalog; Technology Family: HC; Voltage(Nom)(V): 5; Schmitt Trigger: No; Output Drive (IOL/IOH)(Max)(mA): 5.2/-5.2; tpd @ Nom Voltage(Max)(ns): 31; DatasheetVersion: SCLS077E; PackageReference: PW0014A; Supplier 1: Mouser; Supplier Part Number 1: 595-SN74HC03PWR; Supplier 2: Digi-Key; Supplier Part Number 2: 296-29731-2-ND; Supplier 3: Digi-Key; Supplier Part Number 3: 296-29731-1-ND; Supplier 4: Digi-Key; Supplier Part Number 4: 296-29731-6-ND; Input Type: CMOS; Operating Temperature Range(C): -40 to 85; Code_JEDEC: MO-153; ComponentLink1Description: Manufacturer URL; ComponentLink1URL: http://www.ti.com/; ComponentLink2Description: Datasheet; ComponentLink2URL: http://www.ti.com/lit/ds/symlink/sn74hc03.pdf; ComponentLink3Description: Package Specification; ComponentLink3URL: http://www.ti.com/lit/ml/mpds360/mpds360.pdf
footprint PW0014A_N (SOP, 14-Leads, Body 5.1x4.5mm, Pitch 0.65mm, IPC Medium Density)
footprint PW0014A_M (SOP, 14-Leads, Body 5.1x4.5mm, Pitch 0.65mm, IPC Low Density)
footprint PW0014A_L (SOP, 14-Leads, Body 5.1x4.5mm, Pitch 0.65mm, IPC High Density)
part A pins: 1 1A (in), 2 1B (in), 3 1Y (oc)
part B pins: 4 2A (in), 5 2B (in), 6 2Y (oc)
part C pins: 8 3Y (oc), 9 3A (in), 10 3B (in)
part D pins: 11 4Y (oc), 12 4A (in), 13 4B (in)
part E pins: 7 GND (power), 14 VCC (power)

## SN74HC08D
designator U?
Quadruple 2-Input Positive-AND Gates, D0014A, TUBE; Generic Part Number: SN74HC08; Manufacturer: Texas Instruments; PartNumber: SN74HC08D; VCC(Min)(V): 2; VCC(Max)(V): 6; Output Type: CMOS; ICC @ Nom Voltage(Max)(mA): 0.02; Bits(#): 4; F @ Nom Voltage(Max)(Mhz): 70; Rating: Catalog; Technology Family: HC; Voltage(Nom)(V): 5; Schmitt Trigger: No; tpd @ Nom Voltage(Max)(ns): 28; DatasheetVersion: SCLS081F; PackageReference: D0014A; Supplier 1: Mouser; Supplier Part Number 1: 595-SN74HC08D; Supplier 2: Digi-Key; Supplier Part Number 2: 296-1191-5-ND; Input Type: CMOS; Operating Temperature Range(C): -40 to 85; ComponentLink1Description: Manufacturer URL; ComponentLink1URL: http://www.ti.com/; ComponentLink2Description: Datasheet; ComponentLink2URL: http://www.ti.com/lit/ds/symlink/sn74hc08.pdf
footprint D0014A_N (SOIC, 14-Leads, Body 8.75x4mm, Pitch 1.27mm, IPC Medium Density)
footprint D0014A_M (SOIC, 14-Leads, Body 8.75x4mm, Pitch 1.27mm, IPC Low Density)
footprint D0014A_L (SOIC, 14-Leads, Body 8.75x4mm, Pitch 1.27mm, IPC High Density)
part A pins: 1 1A (in), 2 1B (in), 3 1Y (out)
part B pins: 4 2A (in), 5 2B (in), 6 2Y (out)
part C pins: 8 3Y (out), 9 3A (in), 10 3B (in)
part D pins: 11 4Y (out), 12 4A (in), 13 4B (in)
part E pins: 7 GND (power), 14 VCC (power)

## SN74HC08DBR
designator U?
Quadruple 2-Input Positive-AND Gates, DB0014A, LARGE T&R; Generic Part Number: SN74HC08; Manufacturer: Texas Instruments; PartNumber: SN74HC08DBR; VCC(Min)(V): 2; VCC(Max)(V): 6; Output Type: CMOS; ICC @ Nom Voltage(Max)(mA): 0.02; Bits(#): 4; F @ Nom Voltage(Max)(Mhz): 70; Rating: Catalog; Technology Family: HC; Voltage(Nom)(V): 5; Schmitt Trigger: No; tpd @ Nom Voltage(Max)(ns): 28; DatasheetVersion: SCLS081F; PackageReference: DB0014A; Supplier 1: Mouser; Supplier Part Number 1: 595-SN74HC08DBR; Supplier 2: Digi-Key; Supplier Part Number 2: 296-36975-2-ND; Supplier 3: Digi-Key; Supplier Part Number 3: 296-36975-1-ND; Supplier 4: Digi-Key; Supplier Part Number 4: 296-36975-6-ND; Input Type: CMOS; Operating Temperature Range(C): -40 to 85; ComponentLink1Description: Manufacturer URL; ComponentLink1URL: http://www.ti.com/; ComponentLink2Description: Datasheet; ComponentLink2URL: http://www.ti.com/lit/ds/symlink/sn74hc08.pdf
footprint DB0014A_N (SOP, 14-Leads, Body 5.6x6.5mm, Pitch 0.65mm, IPC Medium Density)
footprint DB0014A_M (SOP, 14-Leads, Body 5.6x6.5mm, Pitch 0.65mm, IPC Low Density)
footprint DB0014A_L (SOP, 14-Leads, Body 5.6x6.5mm, Pitch 0.65mm, IPC High Density)
part A pins: 1 1A (in), 2 1B (in), 3 1Y (out)
part B pins: 4 2A (in), 5 2B (in), 6 2Y (out)
part C pins: 8 3Y (out), 9 3A (in), 10 3B (in)
part D pins: 11 4Y (out), 12 4A (in), 13 4B (in)
part E pins: 7 GND (power), 14 VCC (power)

## SN74HC08DR
designator U?
Quadruple 2-Input Positive-AND Gates, D0014A, LARGE T&R; Generic Part Number: SN74HC08; Manufacturer: Texas Instruments; PartNumber: SN74HC08DR; VCC(Min)(V): 2; VCC(Max)(V): 6; Output Type: CMOS; ICC @ Nom Voltage(Max)(mA): 0.02; Bits(#): 4; F @ Nom Voltage(Max)(Mhz): 70; Rating: Catalog; Technology Family: HC; Voltage(Nom)(V): 5; Schmitt Trigger: No; tpd @ Nom Voltage(Max)(ns): 28; DatasheetVersion: SCLS081F; PackageReference: D0014A; Supplier 1: Mouser; Supplier Part Number 1: 595-SN74HC08DR; Supplier 2: Digi-Key; Supplier Part Number 2: 296-1191-2-ND; Supplier 3: Digi-Key; Supplier Part Number 3: 296-1191-1-ND; Supplier 4: Digi-Key; Supplier Part Number 4: 296-1191-6-ND; Input Type: CMOS; Operating Temperature Range(C): -40 to 85; ComponentLink1Description: Manufacturer URL; ComponentLink1URL: http://www.ti.com/; ComponentLink2Description: Datasheet; ComponentLink2URL: http://www.ti.com/lit/ds/symlink/sn74hc08.pdf
footprint D0014A_N (SOIC, 14-Leads, Body 8.75x4mm, Pitch 1.27mm, IPC Medium Density)
footprint D0014A_M (SOIC, 14-Leads, Body 8.75x4mm, Pitch 1.27mm, IPC Low Density)
footprint D0014A_L (SOIC, 14-Leads, Body 8.75x4mm, Pitch 1.27mm, IPC High Density)
part A pins: 1 1A (in), 2 1B (in), 3 1Y (out)
part B pins: 4 2A (in), 5 2B (in), 6 2Y (out)
part C pins: 8 3Y (out), 9 3A (in), 10 3B (in)
part D pins: 11 4Y (out), 12 4A (in), 13 4B (in)
part E pins: 7 GND (power), 14 VCC (power)

## SN74HC08DRG4
designator U?
Quadruple 2-Input Positive-AND Gates, D0014A, LARGE T&R; Generic Part Number: SN74HC08; Manufacturer: Texas Instruments; PartNumber: SN74HC08DRG4; VCC(Min)(V): 2; VCC(Max)(V): 6; Output Type: CMOS; ICC @ Nom Voltage(Max)(mA): 0.02; Bits(#): 4; F @ Nom Voltage(Max)(Mhz): 70; Rating: Catalog; Technology Family: HC; Voltage(Nom)(V): 5; Schmitt Trigger: No; tpd @ Nom Voltage(Max)(ns): 28; DatasheetVersion: SCLS081F; PackageReference: D0014A; Supplier 1: Mouser; Supplier Part Number 1: 595-SN74HC08DRG4; Supplier 2: Digi-Key; Supplier Part Number 2: 296-31777-2-ND; Supplier 3: Digi-Key; Supplier Part Number 3: 296-31777-1-ND; Supplier 4: Digi-Key; Supplier Part Number 4: 296-31777-6-ND; Input Type: CMOS; Operating Temperature Range(C): -40 to 85; ComponentLink1Description: Manufacturer URL; ComponentLink1URL: http://www.ti.com/; ComponentLink2Description: Datasheet; ComponentLink2URL: http://www.ti.com/lit/ds/symlink/sn74hc08.pdf
footprint D0014A_N (SOIC, 14-Leads, Body 8.75x4mm, Pitch 1.27mm, IPC Medium Density)
footprint D0014A_M (SOIC, 14-Leads, Body 8.75x4mm, Pitch 1.27mm, IPC Low Density)
footprint D0014A_L (SOIC, 14-Leads, Body 8.75x4mm, Pitch 1.27mm, IPC High Density)
part A pins: 1 1A (in), 2 1B (in), 3 1Y (out)
part B pins: 4 2A (in), 5 2B (in), 6 2Y (out)
part C pins: 8 3Y (out), 9 3A (in), 10 3B (in)
part D pins: 11 4Y (out), 12 4A (in), 13 4B (in)
part E pins: 7 GND (power), 14 VCC (power)

## SN74HC08DT
designator U?
Quadruple 2-Input Positive-AND Gates, D0014A, SMALL T&R; Generic Part Number: SN74HC08; Manufacturer: Texas Instruments; PartNumber: SN74HC08DT; VCC(Min)(V): 2; VCC(Max)(V): 6; Output Type: CMOS; ICC @ Nom Voltage(Max)(mA): 0.02; Bits(#): 4; F @ Nom Voltage(Max)(Mhz): 70; Rating: Catalog; Technology Family: HC; Voltage(Nom)(V): 5; Schmitt Trigger: No; tpd @ Nom Voltage(Max)(ns): 28; DatasheetVersion: SCLS081F; PackageReference: D0014A; Supplier 1: Mouser; Supplier Part Number 1: 595-SN74HC08DT; Supplier 2: Digi-Key; Supplier Part Number 2: 296-28599-2-ND; Supplier 3: Digi-Key; Supplier Part Number 3: 296-28599-1-ND; Supplier 4: Digi-Key; Supplier Part Number 4: 296-28599-6-ND; Input Type: CMOS; Operating Temperature Range(C): -40 to 85; ComponentLink1Description: Manufacturer URL; ComponentLink1URL: http://www.ti.com/; ComponentLink2Description: Datasheet; ComponentLink2URL: http://www.ti.com/lit/ds/symlink/sn74hc08.pdf
footprint D0014A_N (SOIC, 14-Leads, Body 8.75x4mm, Pitch 1.27mm, IPC Medium Density)
footprint D0014A_M (SOIC, 14-Leads, Body 8.75x4mm, Pitch 1.27mm, IPC Low Density)
footprint D0014A_L (SOIC, 14-Leads, Body 8.75x4mm, Pitch 1.27mm, IPC High Density)
part A pins: 1 1A (in), 2 1B (in), 3 1Y (out)
part B pins: 4 2A (in), 5 2B (in), 6 2Y (out)
part C pins: 8 3Y (out), 9 3A (in), 10 3B (in)
part D pins: 11 4Y (out), 12 4A (in), 13 4B (in)
part E pins: 7 GND (power), 14 VCC (power)

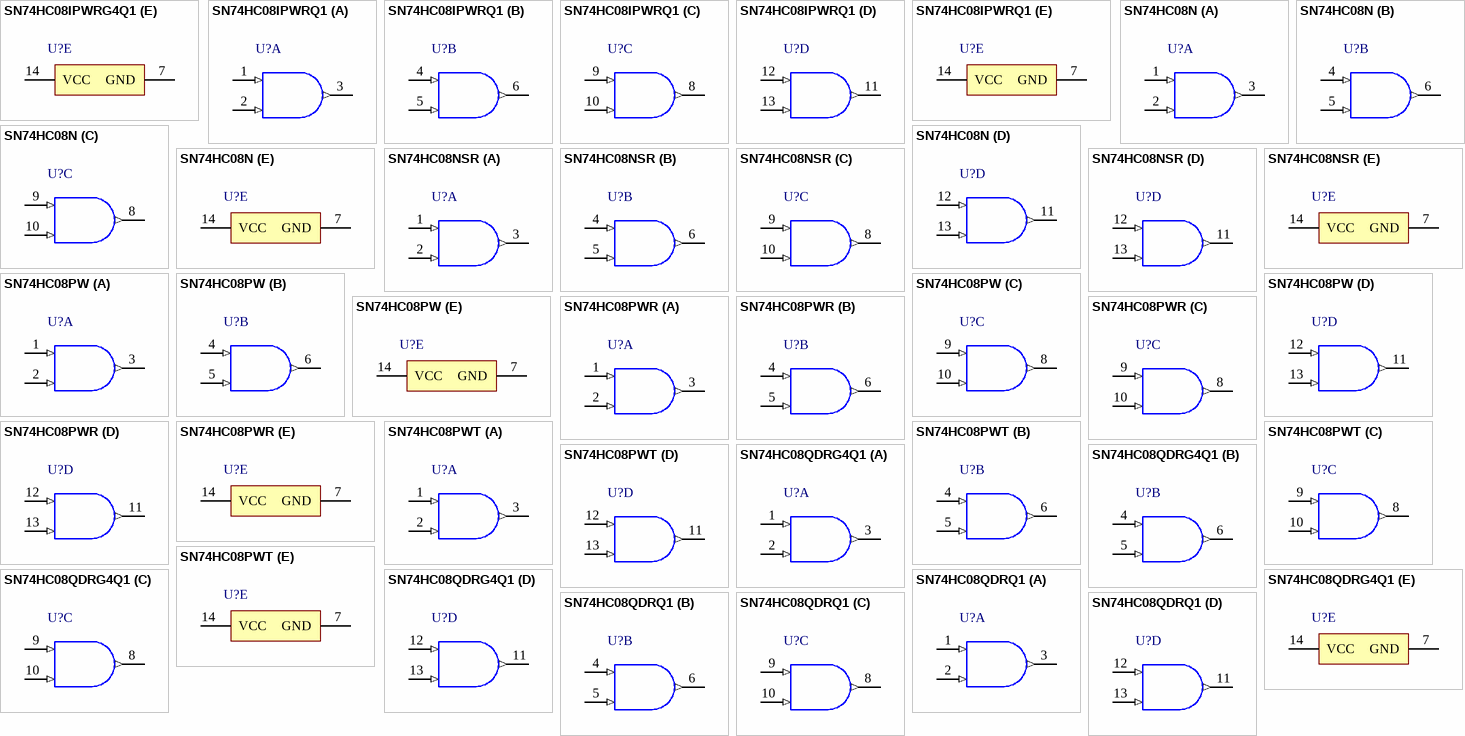
[diagram p133: symbols SN74HC08IPWRG4Q1 to SN74HC08QDRQ1]

## SN74HC08IPWRG4Q1
designator U?
Automotive Catalog Quadruple 2-Input Positive-AND Gates, PW0014A, LARGE T&R; Generic Part Number: SN74HC08-Q1; Manufacturer: Texas Instruments; PartNumber: SN74HC08IPWRG4Q1; VCC(Min)(V): 2; VCC(Max)(V): 6; Output Type: CMOS; ICC @ Nom Voltage(Max)(mA): 0.02; Bits(#): 4; F @ Nom Voltage(Max)(Mhz): 70; Technology Family: HC; Voltage(Nom)(V): 5; Schmitt Trigger: No; Output Drive (IOL/IOH)(Max)(mA): -5.2/5.2; tpd @ Nom Voltage(Max)(ns): 125; DatasheetVersion: SCLS576C; PackageReference: PW0014A; Supplier 1: Mouser; Supplier Part Number 1: 595-SN74HC08IPWRG4Q1; Supplier 2: Digi-Key; Supplier Part Number 2: SN74HC08IPWRG4Q1-ND; Input Type: CMOS; Operating Temperature Range(C): -40 to 125,-40 to 85; Rating: Automotive; ComponentLink1Description: Manufacturer URL; ComponentLink1URL: http://www.ti.com/; ComponentLink2Description: Datasheet; ComponentLink2URL: http://www.ti.com/lit/ds/symlink/sn74hc08-q1.pdf
footprint PW0014A_N (SOP, 14-Leads, Body 5.1x4.5mm, Pitch 0.65mm, IPC Medium Density)
footprint PW0014A_M (SOP, 14-Leads, Body 5.1x4.5mm, Pitch 0.65mm, IPC Low Density)
footprint PW0014A_L (SOP, 14-Leads, Body 5.1x4.5mm, Pitch 0.65mm, IPC High Density)
part A pins: 1 1A (in), 2 1B (in), 3 1Y (out)
part B pins: 4 2A (in), 5 2B (in), 6 2Y (out)
part C pins: 8 3Y (out), 9 3A (in), 10 3B (in)
part D pins: 11 4Y (out), 12 4A (in), 13 4B (in)
part E pins: 7 GND (power), 14 VCC (power)

## SN74HC08IPWRQ1
designator U?
Automotive Catalog Quadruple 2-Input Positive-AND Gates, PW0014A, LARGE T&R; Generic Part Number: SN74HC08-Q1; Manufacturer: Texas Instruments; PartNumber: SN74HC08IPWRQ1; VCC(Min)(V): 2; VCC(Max)(V): 6; Output Type: CMOS; ICC @ Nom Voltage(Max)(mA): 0.02; Bits(#): 4; F @ Nom Voltage(Max)(Mhz): 70; Technology Family: HC; Voltage(Nom)(V): 5; Schmitt Trigger: No; Output Drive (IOL/IOH)(Max)(mA): -5.2/5.2; tpd @ Nom Voltage(Max)(ns): 125; DatasheetVersion: SCLS576C; PackageReference: PW0014A; Supplier 1: Mouser; Supplier Part Number 1: 595-SN74HC08IPWRQ1; Supplier 2: Digi-Key; Supplier Part Number 2: SN74HC08IPWRQ1-ND; Input Type: CMOS; Operating Temperature Range(C): -40 to 125,-40 to 85; Rating: Automotive; ComponentLink1Description: Manufacturer URL; ComponentLink1URL: http://www.ti.com/; ComponentLink2Description: Datasheet; ComponentLink2URL: http://www.ti.com/lit/ds/symlink/sn74hc08-q1.pdf
footprint PW0014A_N (SOP, 14-Leads, Body 5.1x4.5mm, Pitch 0.65mm, IPC Medium Density)
footprint PW0014A_M (SOP, 14-Leads, Body 5.1x4.5mm, Pitch 0.65mm, IPC Low Density)
footprint PW0014A_L (SOP, 14-Leads, Body 5.1x4.5mm, Pitch 0.65mm, IPC High Density)
part A pins: 1 1A (in), 2 1B (in), 3 1Y (out)
part B pins: 4 2A (in), 5 2B (in), 6 2Y (out)
part C pins: 8 3Y (out), 9 3A (in), 10 3B (in)
part D pins: 11 4Y (out), 12 4A (in), 13 4B (in)
part E pins: 7 GND (power), 14 VCC (power)

## SN74HC08N
designator U?
Quadruple 2-Input Positive-AND Gates, N0014A, TUBE; Generic Part Number: SN74HC08; Manufacturer: Texas Instruments; PartNumber: SN74HC08N; VCC(Min)(V): 2; VCC(Max)(V): 6; Output Type: CMOS; ICC @ Nom Voltage(Max)(mA): 0.02; Bits(#): 4; F @ Nom Voltage(Max)(Mhz): 70; Rating: Catalog; Technology Family: HC; Voltage(Nom)(V): 5; Schmitt Trigger: No; tpd @ Nom Voltage(Max)(ns): 28; DatasheetVersion: SCLS081F; PackageReference: N0014A; Supplier 1: Mouser; Supplier Part Number 1: 595-SN74HC08N; Supplier 2: Digi-Key; Supplier Part Number 2: 296-1570-5-ND; Input Type: CMOS; Operating Temperature Range(C): -40 to 85; ComponentLink1Description: Manufacturer URL; ComponentLink1URL: http://www.ti.com/; ComponentLink2Description: Datasheet; ComponentLink2URL: http://www.ti.com/lit/ds/symlink/sn74hc08.pdf
footprint N0014A (DIP, 14-Leads, Body 19.7x6.6mm, Pitch 2.54mm)
part A pins: 1 1A (in), 2 1B (in), 3 1Y (out)
part B pins: 4 2A (in), 5 2B (in), 6 2Y (out)
part C pins: 8 3Y (out), 9 3A (in), 10 3B (in)
part D pins: 11 4Y (out), 12 4A (in), 13 4B (in)
part E pins: 7 GND (power), 14 VCC (power)

## SN74HC08NSR
designator U?
Quadruple 2-Input Positive-AND Gates, NS0014A, LARGE T&R; Generic Part Number: SN74HC08; Manufacturer: Texas Instruments; PartNumber: SN74HC08NSR; VCC(Min)(V): 2; VCC(Max)(V): 6; Output Type: CMOS; ICC @ Nom Voltage(Max)(mA): 0.02; Bits(#): 4; F @ Nom Voltage(Max)(Mhz): 70; Rating: Catalog; Technology Family: HC; Voltage(Nom)(V): 5; Schmitt Trigger: No; tpd @ Nom Voltage(Max)(ns): 28; DatasheetVersion: SCLS081F; PackageReference: NS0014A; Supplier 1: Mouser; Supplier Part Number 1: 595-SN74HC08NSR; Supplier 2: Digi-Key; Supplier Part Number 2: 296-12884-2-ND; Supplier 3: Digi-Key; Supplier Part Number 3: 296-12884-1-ND; Supplier 4: Digi-Key; Supplier Part Number 4: 296-12884-6-ND; Input Type: CMOS; Operating Temperature Range(C): -40 to 85; ComponentLink1Description: Manufacturer URL; ComponentLink1URL: http://www.ti.com/; ComponentLink2Description: Datasheet; ComponentLink2URL: http://www.ti.com/lit/ds/symlink/sn74hc08.pdf
footprint NS0014A_N (SOIC,14-Leads,Body 10.5x5.6mm,Pitch 1.27mm,IPC Medium Density)
footprint NS0014A_M (SOIC,14-Leads,Body 10.5x5.6mm,Pitch 1.27mm,IPC Low Density)
footprint NS0014A_L (SOIC,14-Leads,Body 10.5x5.6mm,Pitch 0.4mm,IPC High Density)
part A pins: 1 1A (in), 2 1B (in), 3 1Y (out)
part B pins: 4 2A (in), 5 2B (in), 6 2Y (out)
part C pins: 8 3Y (out), 9 3A (in), 10 3B (in)
part D pins: 11 4Y (out), 12 4A (in), 13 4B (in)
part E pins: 7 GND (power), 14 VCC (power)

## SN74HC08PW
designator U?
Quadruple 2-Input Positive-AND Gates, PW0014A, TUBE; Generic Part Number: SN74HC08; Manufacturer: Texas Instruments; PartNumber: SN74HC08PW; VCC(Min)(V): 2; VCC(Max)(V): 6; Output Type: CMOS; ICC @ Nom Voltage(Max)(mA): 0.02; Bits(#): 4; F @ Nom Voltage(Max)(Mhz): 70; Rating: Catalog; Technology Family: HC; Voltage(Nom)(V): 5; Schmitt Trigger: No; tpd @ Nom Voltage(Max)(ns): 28; DatasheetVersion: SCLS081F; PackageReference: PW0014A; Supplier 1: Mouser; Supplier Part Number 1: 595-SN74HC08PW; Supplier 2: Digi-Key; Supplier Part Number 2: 296-26459-5-ND; Input Type: CMOS; Operating Temperature Range(C): -40 to 85; ComponentLink1Description: Manufacturer URL; ComponentLink1URL: http://www.ti.com/; ComponentLink2Description: Datasheet; ComponentLink2URL: http://www.ti.com/lit/ds/symlink/sn74hc08.pdf
footprint PW0014A_N (SOP, 14-Leads, Body 5.1x4.5mm, Pitch 0.65mm, IPC Medium Density)
footprint PW0014A_M (SOP, 14-Leads, Body 5.1x4.5mm, Pitch 0.65mm, IPC Low Density)
footprint PW0014A_L (SOP, 14-Leads, Body 5.1x4.5mm, Pitch 0.65mm, IPC High Density)
part A pins: 1 1A (in), 2 1B (in), 3 1Y (out)
part B pins: 4 2A (in), 5 2B (in), 6 2Y (out)
part C pins: 8 3Y (out), 9 3A (in), 10 3B (in)
part D pins: 11 4Y (out), 12 4A (in), 13 4B (in)
part E pins: 7 GND (power), 14 VCC (power)

## SN74HC08PWR
designator U?
Quadruple 2-Input Positive-AND Gates, PW0014A, LARGE T&R; Generic Part Number: SN74HC08; Manufacturer: Texas Instruments; PartNumber: SN74HC08PWR; VCC(Min)(V): 2; VCC(Max)(V): 6; Output Type: CMOS; ICC @ Nom Voltage(Max)(mA): 0.02; Bits(#): 4; F @ Nom Voltage(Max)(Mhz): 70; Rating: Catalog; Technology Family: HC; Voltage(Nom)(V): 5; Schmitt Trigger: No; tpd @ Nom Voltage(Max)(ns): 28; DatasheetVersion: SCLS081F; PackageReference: PW0014A; Supplier 1: Mouser; Supplier Part Number 1: 595-SN74HC08PWR; Supplier 2: Digi-Key; Supplier Part Number 2: 296-8210-2-ND; Supplier 3: Digi-Key; Supplier Part Number 3: 296-8210-1-ND; Input Type: CMOS; Operating Temperature Range(C): -40 to 85; ComponentLink1Description: Manufacturer URL; ComponentLink1URL: http://www.ti.com/; ComponentLink2Description: Datasheet; ComponentLink2URL: http://www.ti.com/lit/ds/symlink/sn74hc08.pdf
footprint PW0014A_N (SOP, 14-Leads, Body 5.1x4.5mm, Pitch 0.65mm, IPC Medium Density)
footprint PW0014A_M (SOP, 14-Leads, Body 5.1x4.5mm, Pitch 0.65mm, IPC Low Density)
footprint PW0014A_L (SOP, 14-Leads, Body 5.1x4.5mm, Pitch 0.65mm, IPC High Density)
part A pins: 1 1A (in), 2 1B (in), 3 1Y (out)
part B pins: 4 2A (in), 5 2B (in), 6 2Y (out)
part C pins: 8 3Y (out), 9 3A (in), 10 3B (in)
part D pins: 11 4Y (out), 12 4A (in), 13 4B (in)
part E pins: 7 GND (power), 14 VCC (power)

## SN74HC08PWT
designator U?
Quadruple 2-Input Positive-AND Gates, PW0014A, SMALL T&R; Generic Part Number: SN74HC08; Manufacturer: Texas Instruments; PartNumber: SN74HC08PWT; VCC(Min)(V): 2; VCC(Max)(V): 6; Output Type: CMOS; ICC @ Nom Voltage(Max)(mA): 0.02; Bits(#): 4; F @ Nom Voltage(Max)(Mhz): 70; Rating: Catalog; Technology Family: HC; Voltage(Nom)(V): 5; Schmitt Trigger: No; tpd @ Nom Voltage(Max)(ns): 28; DatasheetVersion: SCLS081F; PackageReference: PW0014A; Supplier 1: Mouser; Supplier Part Number 1: 595-SN74HC08PWT; Supplier 2: Digi-Key; Supplier Part Number 2: 296-28619-2-ND; Supplier 3: Digi-Key; Supplier Part Number 3: 296-28619-1-ND; Supplier 4: Digi-Key; Supplier Part Number 4: 296-28619-6-ND; Input Type: CMOS; Operating Temperature Range(C): -40 to 85; ComponentLink1Description: Manufacturer URL; ComponentLink1URL: http://www.ti.com/; ComponentLink2Description: Datasheet; ComponentLink2URL: http://www.ti.com/lit/ds/symlink/sn74hc08.pdf
footprint PW0014A_N (SOP, 14-Leads, Body 5.1x4.5mm, Pitch 0.65mm, IPC Medium Density)
footprint PW0014A_M (SOP, 14-Leads, Body 5.1x4.5mm, Pitch 0.65mm, IPC Low Density)
footprint PW0014A_L (SOP, 14-Leads, Body 5.1x4.5mm, Pitch 0.65mm, IPC High Density)
part A pins: 1 1A (in), 2 1B (in), 3 1Y (out)
part B pins: 4 2A (in), 5 2B (in), 6 2Y (out)
part C pins: 8 3Y (out), 9 3A (in), 10 3B (in)
part D pins: 11 4Y (out), 12 4A (in), 13 4B (in)
part E pins: 7 GND (power), 14 VCC (power)

## SN74HC08QDRG4Q1
designator U?
Automotive Catalog Quadruple 2-Input Positive-AND Gates, D0014A, LARGE T&R; Generic Part Number: SN74HC08-Q1; Manufacturer: Texas Instruments; PartNumber: SN74HC08QDRG4Q1; VCC(Min)(V): 2; VCC(Max)(V): 6; Output Type: CMOS; ICC @ Nom Voltage(Max)(mA): 0.02; Bits(#): 4; F @ Nom Voltage(Max)(Mhz): 70; Technology Family: HC; Voltage(Nom)(V): 5; Schmitt Trigger: No; Output Drive (IOL/IOH)(Max)(mA): -5.2/5.2; tpd @ Nom Voltage(Max)(ns): 125; DatasheetVersion: SCLS576C; PackageReference: D0014A; Supplier 1: Mouser; Supplier Part Number 1: 595-SN74HC08QDRG4Q1; Supplier 2: Digi-Key; Supplier Part Number 2: 296-24748-2-ND; Supplier 3: Digi-Key; Supplier Part Number 3: 296-24748-1-ND; Supplier 4: Digi-Key; Supplier Part Number 4: 296-24748-6-ND; Input Type: CMOS; Operating Temperature Range(C): -40 to 125,-40 to 85; Rating: Automotive; ComponentLink1Description: Manufacturer URL; ComponentLink1URL: http://www.ti.com/; ComponentLink2Description: Datasheet; ComponentLink2URL: http://www.ti.com/lit/ds/symlink/sn74hc08-q1.pdf
footprint D0014A_N (SOIC, 14-Leads, Body 8.75x4mm, Pitch 1.27mm, IPC Medium Density)
footprint D0014A_M (SOIC, 14-Leads, Body 8.75x4mm, Pitch 1.27mm, IPC Low Density)
footprint D0014A_L (SOIC, 14-Leads, Body 8.75x4mm, Pitch 1.27mm, IPC High Density)
part A pins: 1 1A (in), 2 1B (in), 3 1Y (out)
part B pins: 4 2A (in), 5 2B (in), 6 2Y (out)
part C pins: 8 3Y (out), 9 3A (in), 10 3B (in)
part D pins: 11 4Y (out), 12 4A (in), 13 4B (in)
part E pins: 7 GND (power), 14 VCC (power)

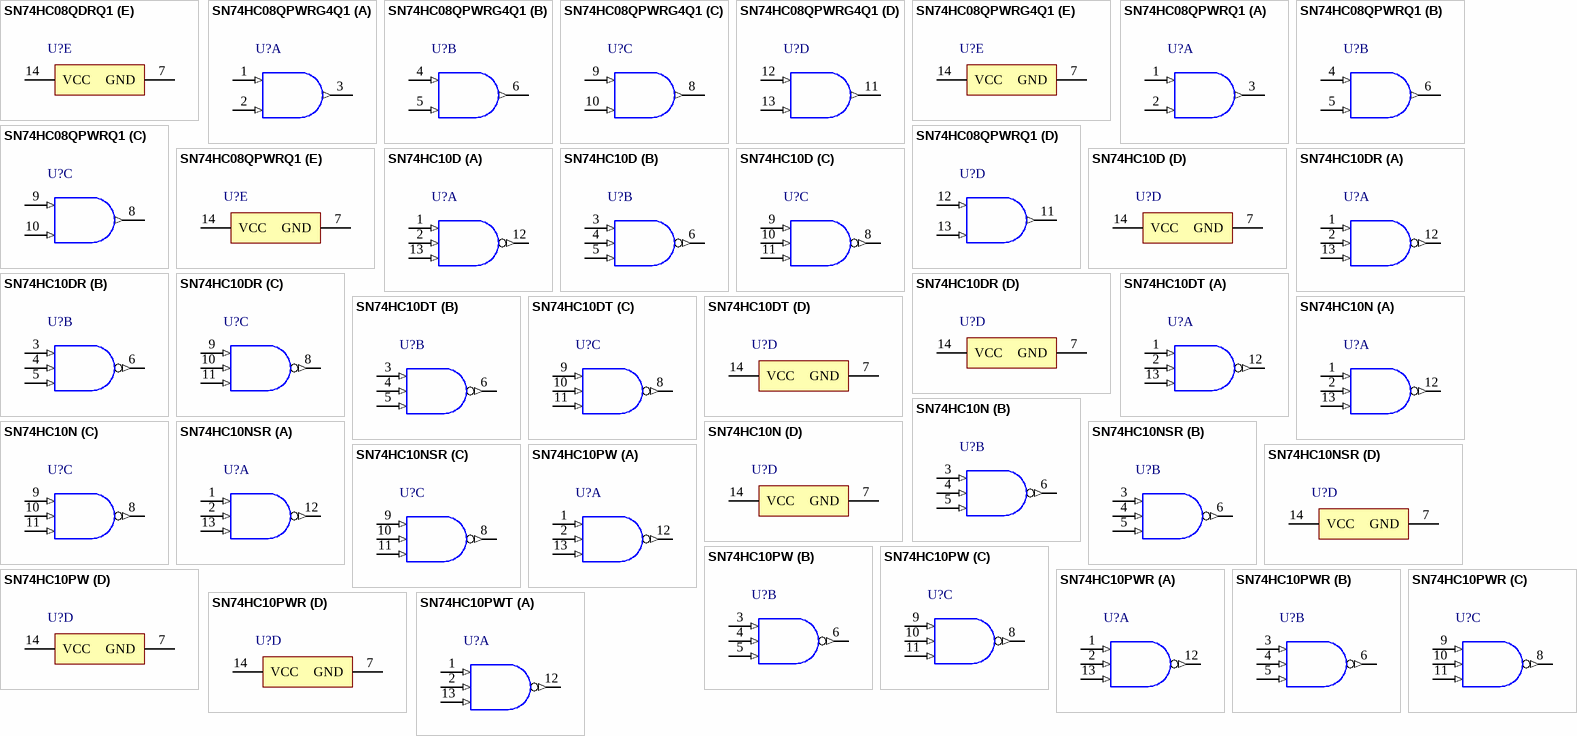
[diagram p134: symbols SN74HC08QDRQ1 to SN74HC10PWT]